# Altium schematic symbol library SN74HCS596QPWRQ1.SchLib: 3 symbols
Pins are listed as number, name and electrical type; pins without a type are passive.

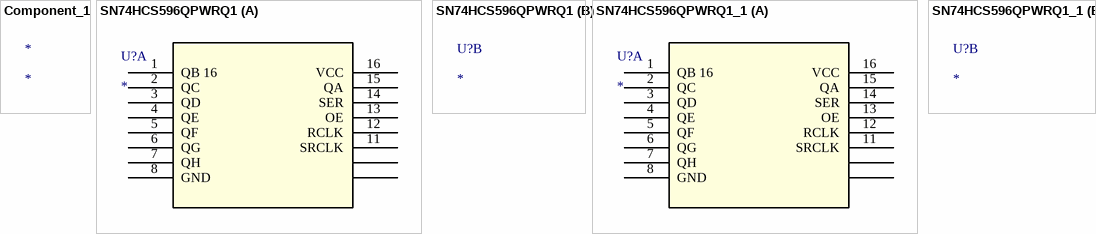
[diagram p0: symbols Component_1 to SN74HCS596QPWRQ1_1]

## Component_1
designator *

## SN74HCS596QPWRQ1
designator U?
No Description Available; Mfr_Name: Texas Instruments; RefDes: RefDes; Type: Type
footprint TSSOP_QPWRQ1_TEX
part A pins: 1 QB 16, 2 QC, 3 QD, 4 QE, 5 QF, 6 QG, 7 QH, 8 GND (power), 11 SRCLK, 12 RCLK, 13 OE, 14 SER, 15 QA, 16 VCC (power), ?1, ?2

## SN74HCS596QPWRQ1_1
designator U?
No Description Available; Mfr_Name: Texas Instruments; RefDes: RefDes; Type: Type
footprint TSSOP_QPWRQ1_TEX
part A pins: 1 QB 16, 2 QC, 3 QD, 4 QE, 5 QF, 6 QG, 7 QH, 8 GND (power), 11 SRCLK, 12 RCLK, 13 OE, 14 SER, 15 QA, 16 VCC (power), ?1, ?2